# Altium footprint library SOT-23.PcbLib: 2 footprints
Each footprint in its own frame and in the unit in brackets; x right, y up, seen from the top. Pads: shape width x height; smd on the part's side, far side on the other; paste and mask are expansions set on the pad; w line width, h text height; cw(c..) or ccw(c..) is an arc to the next point about the centre after c.
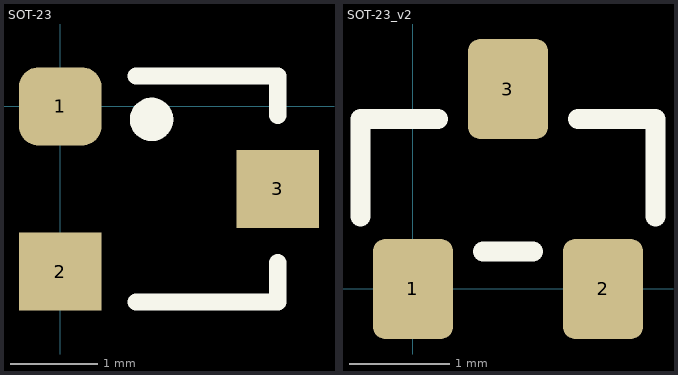
[diagram p0: the footprints below, top view; thin cyan lines are the x and y axes]

## SOT-23 [mm]
pads (3):
  rrect50% 0.95x0.9 smd: 1(0,0)
  rect 0.95x0.9 smd: 2(0,-1.9) 3(2.5,-0.95)
Top Overlay:
  circle w0.25: c1.05,-0.15 r0.125
  lines w0.2: 0.875,-2.25 2.5,-2.25 2.5,-1.8 ; 0.875,0.35 2.5,0.35 2.5,-0.1
Mechanical 15:
  text "'.Designator'" at -0.275,-1.517 h1
3D body "SOT23.STEP": height 1.08, standoff -0.02, extent 0,-2.45 2.5,0.55

## SOT-23_v2 [mil]
height 433.07
pads (3):
  rrect30% 31.5x39.37 smd: 1(0,0) 2(74.8,0) 3(37.4,78.73)
Top Overlay:
  lines w7.87: -20.67,28.54 -20.67,66.93 9.84,66.93 ; 27.56,14.76 47.24,14.76 ; 64.96,66.93 95.47,66.93 95.47,28.54
3D body "User Library-3-lead sot23-3.step": height 39.37, standoff -0.79, extent -20.08,-8.86 94.88,88.63